# Altium integrated library AP65111AWU-7.IntLib: 1 symbol
Pins are listed as number, name and electrical type; pins without a type are passive.

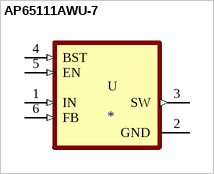
[diagram p0: symbol AP65111AWU-7]

## AP65111AWU-7
designator U
Buck Switching Regulator IC Positive Adjustable 0.8V 1 Output 1.5A SOT-23-6 Thin, TSOT-23-6; MP: AP65111AWU-7; MF: Diodes Inc.; Availability: Unavailable; SnapEDA_Link: https://www.snapeda.com/parts/AP65111AWU-7/Diodes%20Inc./view-part/1631258/?ref=snap; Price: None; Value: *; Package: TSOT-23-6 Diodes Inc.
footprint SOT95P280X100-6N
pins: 1 IN (in), 2 GND (power), 3 SW (out), 4 BST (in), 5 EN (in), 6 FB (in)